# Altium footprint library BMS_Devices.PcbLib: 136 footprints (part 2 of 9)
Each footprint in its own frame and in the unit in brackets; x right, y up, seen from the top. Pads: shape width x height; smd on the part's side, far side on the other; paste and mask are expansions set on the pad; w line width, h text height; cw(c..) or ccw(c..) is an arc to the next point about the centre after c.
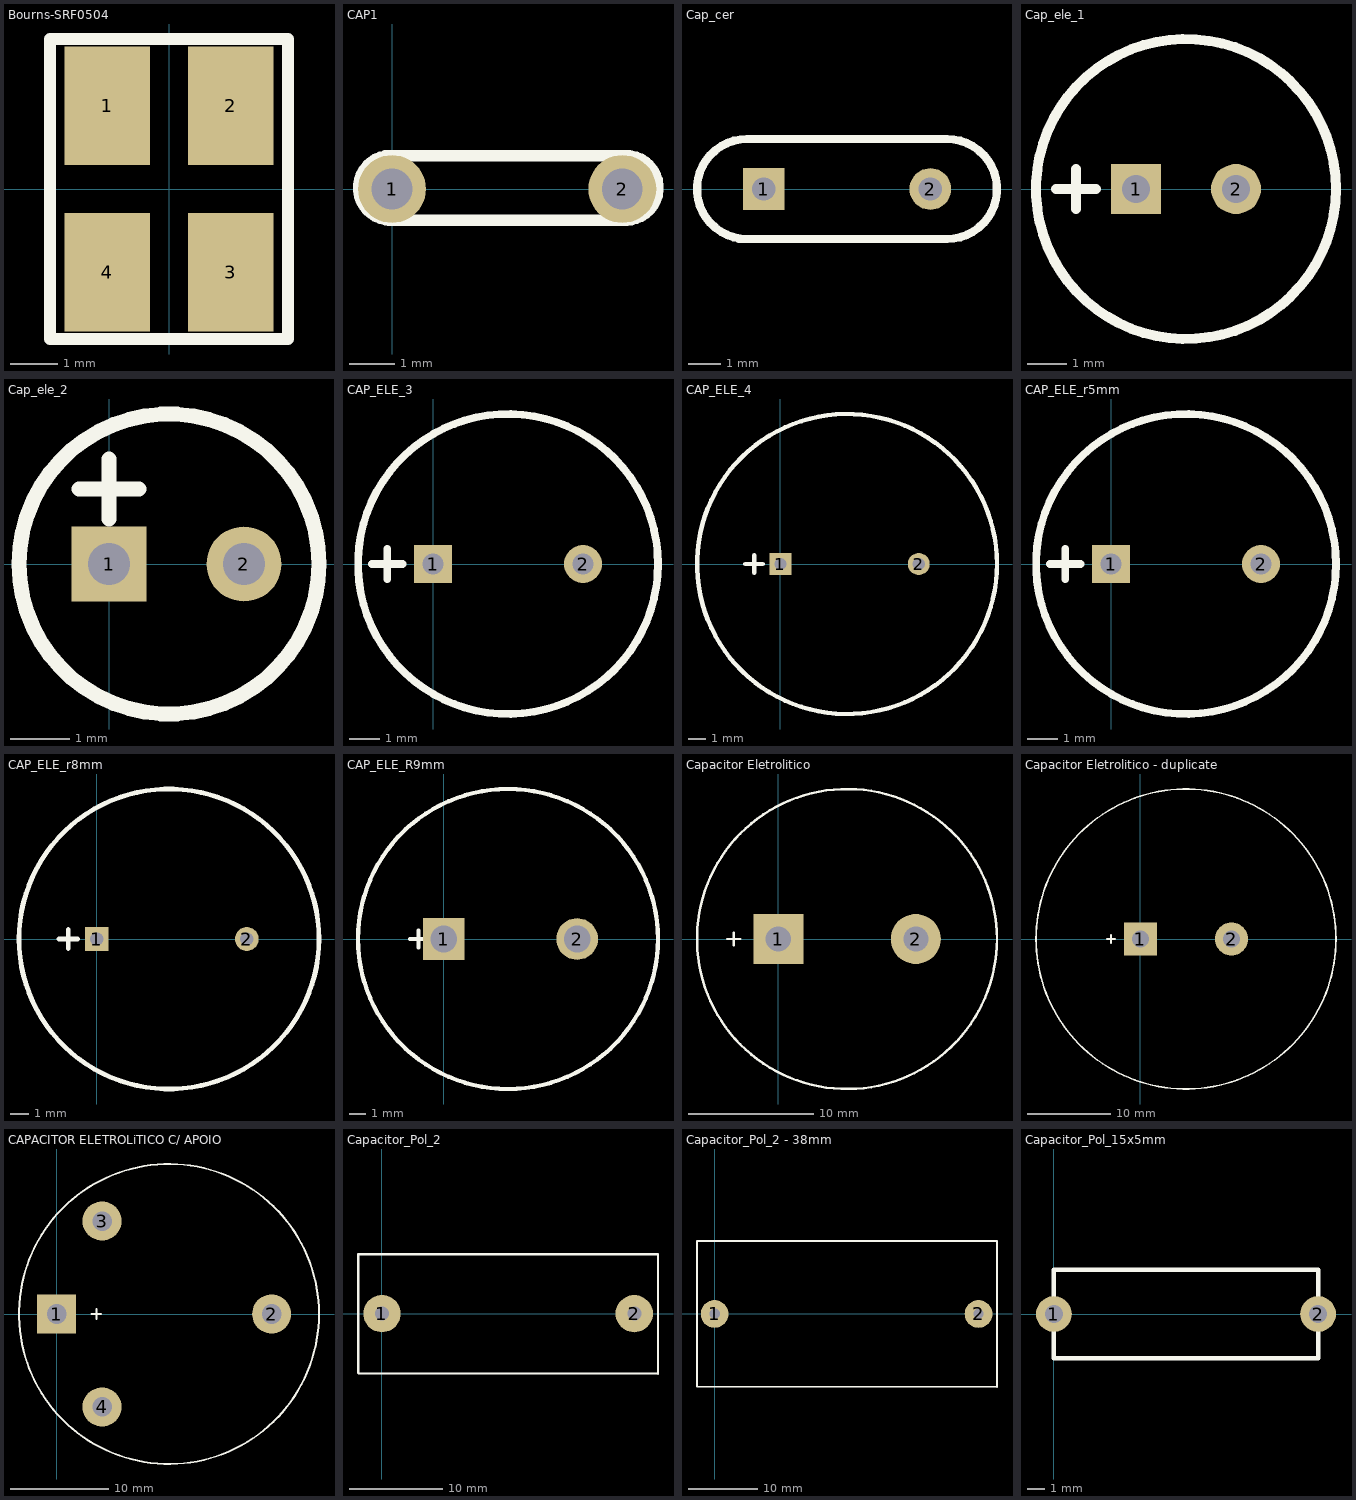
[diagram p1: the footprints below, top view; thin cyan lines are the x and y axes]

## Bourns-SRF0504 [mm]
pads (4):
  rect 1.8x2.5 smd: 1(-1.3,1.75) 2(1.3,1.75) 3(1.3,-1.75) 4(-1.3,-1.75)
Top Overlay:
  lines w0.254: -2.5,-3.156 -1.25,-3.156 1.25,-3.156 2.5,-3.156 ; -2.5,-3.15 -2.5,3.15 ; -2.5,3.156 2.5,3.156 ; 2.5,-3.124 2.5,3.124

## CAP1 [mm]
pads (2):
  round 1.5 hole 0.9: 1(0,0) 2(5.08,0)
Top Overlay:
  lines w0.254: -0.152,0.737 5.232,0.737 ; -0.076,-0.686 5.182,-0.686 ; -0.025,-0.686 cw(c-0.025,0.025) -0.025,0.737 ; 5.156,-0.686 ccw(c5.156,0.025) 5.156,0.737

## Cap_cer [mil]
pads (2):
  rect 50x50 hole 28: 1(200,0)
  round 50 hole 28: 2(400,0)
Top Overlay:
  lines w10: 170,-60 420,-60 ccw(c420,0) 420,60 180,60 ccw(c180,0) 180,-60

## Cap_ele_1 [mil]
pads (2):
  rect 50x50 hole 28: 1(200,0)
  round 50 hole 28: 2(300,0)
Top Overlay:
  circle w10: c250,0 r150
  lines w10: 120,0 160,0 ; 140,-20 140,20

## Cap_ele_2 [mil]
pads (2):
  rect 50x50 hole 28: 1(0,0)
  round 50 hole 28: 2(90,0)
Top Overlay:
  circle w10: c40,0 r100
  lines w10: -20,50 20,50 ; 0,30 0,70

## CAP_ELE_3 [mil]
pads (2):
  rect 50x50 hole 28: 1(0,0)
  round 50 hole 28: 2(196.85,0)
Top Overlay:
  circle w10: c98.43,0 r196.85
  lines w10: -80,0 -40,0 ; -60,-20 -60,20

## CAP_ELE_4 [mil]
pads (2):
  rect 50x50 hole 28: 1(0,0)
  round 50 hole 28: 2(314.96,0)
Top Overlay:
  circle w10: c151.57,0 r341.57
  lines w10: -80,0 -40,0 ; -60,-20 -60,20
3D body: height 984.25, standoff 0, extent -189.98,-341.55 493.13,341.55

## CAP_ELE_r5mm [mil]
pads (2):
  rect 50x50 hole 28: 1(0,0)
  round 50 hole 28: 2(196.85,0)
Top Overlay:
  circle w10: c98.43,0 r196.85
  lines w10: -80,0 -40,0 ; -60,-20 -60,20
3D body: height 590.55, standoff 0, extent -98.41,-196.83 295.26,196.83

## CAP_ELE_r8mm [mil]
pads (2):
  rect 50x50 hole 28: 1(0,0)
  round 50 hole 28: 2(314.96,0)
Top Overlay:
  circle w10: c151.57,0 r314.96
  lines w10: -80,0 -40,0 ; -60,-20 -60,20
3D body: height 984.25, standoff 0, extent -163.37,-314.94 466.52,314.94

## CAP_ELE_R9mm [mm]
pads (2):
  rect 2.5x2.5 hole 1.6: 1(0,0)
  round 2.5 hole 1.6: 2(8,0)
Top Overlay:
  circle w0.254: c3.85,0 r9
  lines w0.254: -2.032,0 -1.016,0 ; -1.524,-0.508 -1.524,0.508
3D body: height 25, standoff 0, extent -4.825,-8.675 12.525,8.675

## Capacitor Eletrolitico [mm]
pads (2):
  rect 4x4 hole 2: 1(0,0)
  round 4 hole 2: 2(11,0)
Top Overlay:
  circle w0.2: c5.5,0 r12
  lines w0.2: -4.064,0 -3.048,0 ; -3.556,-0.508 -3.556,0.508

## Capacitor Eletrolitico - duplicate [mm]
pads (2):
  rect 4x4 hole 2: 1(0,0)
  round 4 hole 2: 2(11,0)
Top Overlay:
  circle w0.2: c5.5,0 r18.124
  lines w0.2: -4.064,0 -3.048,0 ; -3.556,-0.508 -3.556,0.508
3D body: height 40, standoff 0, extent -12.623,-18.123 23.623,18.123

## CAPACITOR ELETROLiTICO C/ APOIO [mm]
pads (4):
  rect 4x4 hole 2: 1(0,0)
  round 4 hole 2: 2(22,0) 3(4.65,9.5) 4(4.65,-9.5)
Top Overlay:
  circle w0.2: c11.5,0 r15.344
  lines w0.2: 3.556,0 4.572,0 ; 4.064,-0.508 4.064,0.508

## Capacitor_Pol_2 [mm]
pads (2):
  round 4 hole 1.5: 1(0,0) 2(27,0)
Top Overlay:
  lines w0.254: -2.565,6.35 29.54,6.35 29.54,-6.35 ; -2.54,-6.35 -2.54,6.35 ; -2.515,-6.401 29.54,-6.426

## Capacitor_Pol_2 - 38mm [mm]
pads (2):
  round 4 hole 1.5: 1(0,0) 2(38,0)
Top Overlay:
  lines w0.254: -2.54,-10.486 -2.54,10.5 40.66,10.5 40.66,-10.52 -2.54,-10.486

## Capacitor_Pol_15x5mm [mil]
pads (2):
  round 80 hole 40: 1(0,0) 2(590.55,0)
Top Overlay:
  lines w10: 0,-98.43 0,98.43 590.55,98.43 590.55,-98.43 0,-98.43
3D body: height 393.7, standoff 0, extent -5,-103.43 595.55,103.43